# EAGLE library part SI-60118-F (library SI-60118-F)
MagJack 10/100BASE-T | 1X1 | G/G | -40 to 85C | Tab Down | RoHS Source: Datasheet <https://componentsearchengine.com/Datasheets/1/SI-60118-F.pdf>
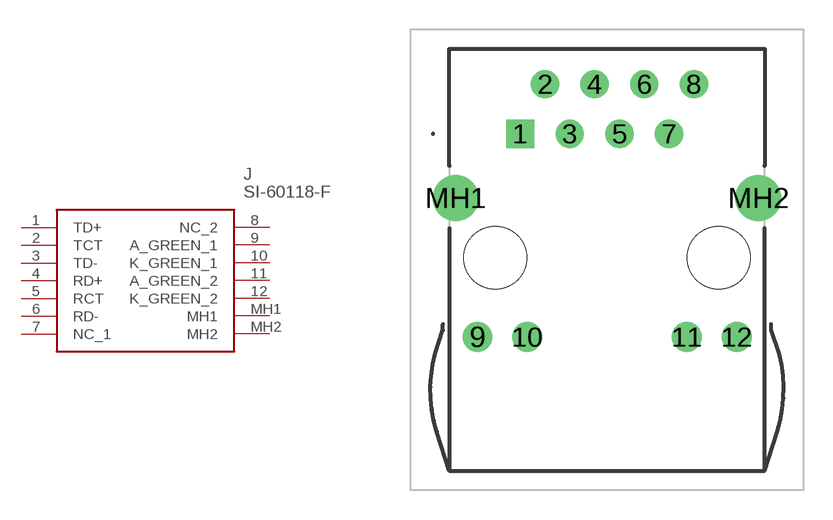
[diagram p0: symbol with the pads of SI60118F; footprint SI60118F]

Designator prefix J

## SI-60118-F (Description: MagJack 10/100BASE-T | 1X1 | G/G | -40 to 85C | Tab Down | RoHS; Height: 15.21mm; Manufacturer_Name: BelFuse; Manufacturer_Part_Number: SI-60118-F; Mouser_Part_Number: 530-SI-60118-F; Mouser_Price-Stock: https://www.mouser.com/Search/ProductDetail.aspx?qs=SRYZG9HaIQ1pVFtjOaj56g%3d%3d)  [SI60118F]
1  TD+
2  TCT
3  TD-
4  RD+
5  RCT
6  RD-
7  NC_1
8  NC_2
9  A_GREEN_1
10  K_GREEN_1
11  A_GREEN_2
12  K_GREEN_2
MH1  MH1
MH2  MH2

## Footprint SI60118F (pad centres in mm)
SI-60118-F-1
drill 0.89 pad 1.446 square: 1 0,0
drill 0.89 pad 1.446: 2 1.27,2.54; 3 2.54,0; 4 3.81,2.54; 5 5.08,0; 6 6.35,2.54; 7 7.62,0; 8 8.89,2.54
drill 1.02 pad 1.53: 9 -2.18,-10.41; 10 0.36,-10.41; 11 8.53,-10.41; 12 11.07,-10.41
drill 1.57 pad 2.355: MH1 -3.3,-3.3; MH2 12.19,-3.3
hole 3.215 at -1.27,-6.35
hole 3.215 at 10.16,-6.35